# Altium footprint library MINI-360.PcbLib: 1 footprints
Each footprint in its own frame and in the unit in brackets; x right, y up, seen from the top. Pads: shape width x height; smd on the part's side, far side on the other; paste and mask are expansions set on the pad; w line width, h text height; cw(c..) or ccw(c..) is an arc to the next point about the centre after c.
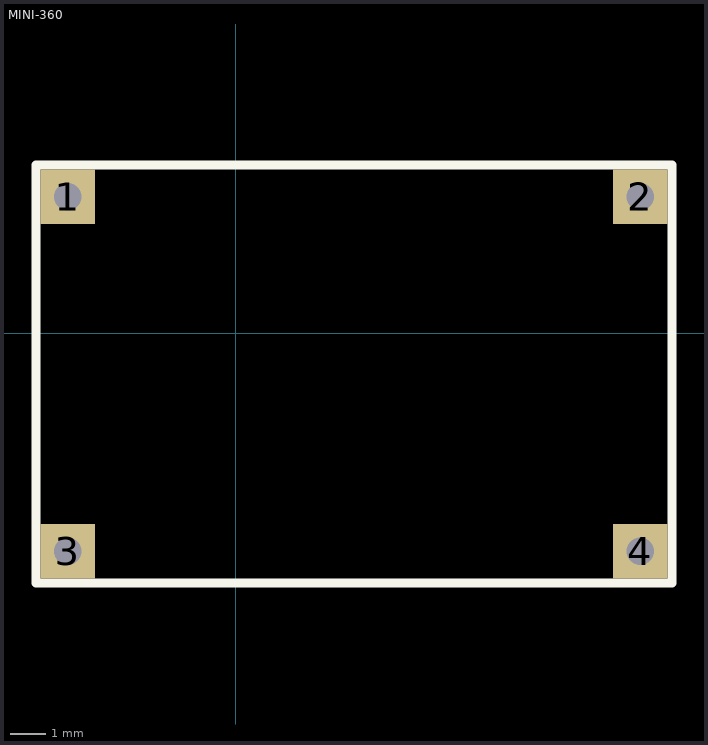
[diagram p0: the footprint, top view; thin cyan lines are the x and y axes]

## MINI-360 [mil]
pads (4):
  rect 60x60 hole 30: 1(-185,150) 2(445,150) 3(-185,-240) 4(445,-240)
Top Overlay:
  lines w10: -220,-275 480,-275 480,185 -220,185 -220,-275
Mechanical 1:
  text "IN+" at -135,-255 h39.37
  text "IN-" at -135,125 h39.37
  text "OUT+" at 255,-255 h39.37
  text "OUT-" at 250,130 h39.37
3D body "MIni - 360.step": height 88.32, standoff -59.34, extent -224.07,-281.35 484.59,191.1